# Altium schematic symbol library SCH - POWER - SWITCHMODE - TI TPS61091RSA.SchLib: 1 symbol
Pins are listed as number, name and electrical type; pins without a type are passive.

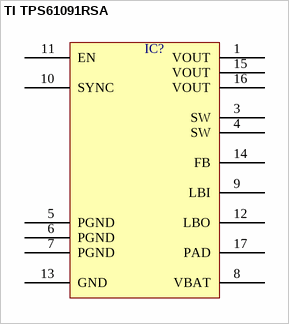
[diagram p0: symbol TI TPS61091RSA]

## TI TPS61091RSA
designator IC?  (value not drawn)
pins: 1 VOUT, 3 SW, 4 SW, 5 PGND, 6 PGND, 7 PGND, 8 VBAT, 9 LBI, 10 SYNC, 11 EN, 12 LBO, 13 GND, 14 FB, 15 VOUT, 16 VOUT, 17 PAD